# Altium schematic symbol library Schlib_Driver L293D.SchLib: 1 symbol
Pins are listed as number, name and electrical type; pins without a type are passive.

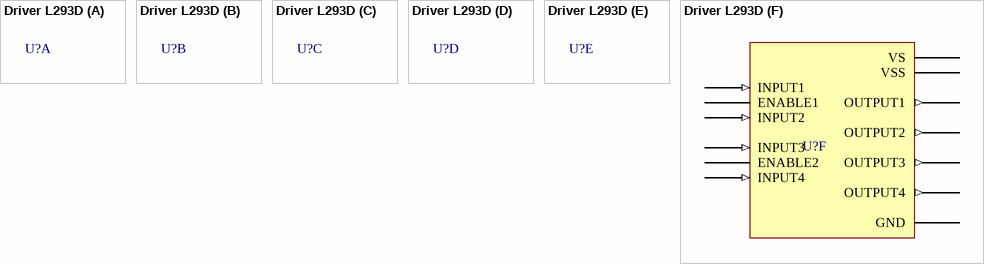
[diagram p0: symbol Driver L293D]

## Driver L293D
designator U?  (value not drawn)
SOIC-20-300mil Stepper Motor Driver ROHS; Manufacturer: STMicroelectronics; Manufacturer part number: L293DD013TR; ComponentLink1Description: datasheet; ComponentLink1URL: https://www.lcsc.com/datasheet/lcsc_datasheet_2304140030_STMicroelectronics-L293DD013TR_C21610.pdf; supplier: LCSC; supplier part number: C21610
footprint SOP127P1030X265-20N (SOP, 20-Leads, Body 12.80x7.50mm, Pitch 1.27mm, IPC Medium Density)
part F pins: 1 INPUT1 (in), 2 ENABLE1, 3 INPUT2 (in), 4 INPUT3 (in), 5 ENABLE2, 6 INPUT4 (in), 6 VS, 7 VSS, 9 OUTPUT1 (out), 10 OUTPUT2 (out), 11 OUTPUT3 (out), 12 OUTPUT4 (out), 13 GND